# Altium schematic symbol library STSPIN32F0A.SchLib: 2 symbols
Pins are listed as number, name and electrical type; pins without a type are passive.

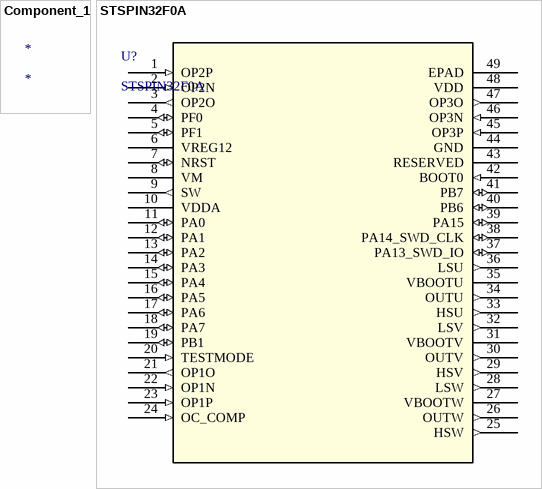
[diagram p0: symbols Component_1 to STSPIN32F0A]

## Component_1
designator *

## STSPIN32F0A
designator U?
No Description Available; Vendor: STMicroelectronics; Built_By: EMA_Jessica; SourceLibrary: Update_to_database_2020-12-04; Manufacturer_Part_Number: STSPIN32F0A; Copyright: Copyright (C) 2018 Accelerated Designs. All rights reserved; RefDes: RefDes; Type: DEV
footprint VFQFPN-48_7x7x1mm_STM
pins: 1 OP2P (in), 2 OP2N (in), 3 OP2O (out), 4 PF0 (io), 5 PF1 (io), 6 VREG12 (power), 7 NRST (io), 8 VM (power), 9 SW (out), 10 VDDA (power), 11 PA0 (io), 12 PA1 (io), 13 PA2 (io), 14 PA3 (io), 15 PA4 (io), 16 PA5 (io), 17 PA6 (io), 18 PA7 (io), 19 PB1 (io), 20 TESTMODE (in), 21 OP1O (out), 22 OP1N (in), 23 OP1P (in), 24 OC_COMP (in), 25 HSW (out), 26 OUTW (out), 27 VBOOTW (power), 28 LSW (out), 29 HSV (out), 30 OUTV (out), 31 VBOOTV (power), 32 LSV (out), 33 HSU (out), 34 OUTU (out), 35 VBOOTU (power), 36 LSU (out), 37 PA13_SWD_IO (io), 38 PA14_SWD_CLK (io), 39 PA15 (io), 40 PB6 (io), 41 PB7 (io), 42 BOOT0 (in), 43 RESERVED, 44 GND (power), 45 OP3P (in), 46 OP3N (in), 47 OP3O (out), 48 VDD (power), 49 EPAD